# EAGLE library part SCREW8 (library cyclops)
Screw Terminal
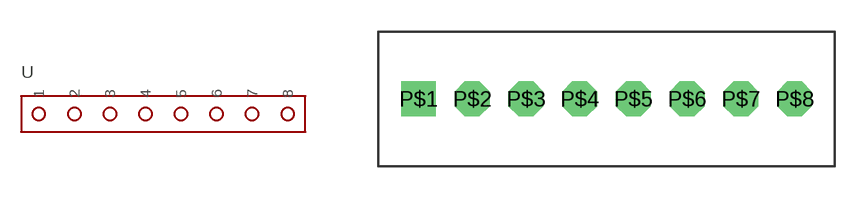
[diagram p6: symbol with the pads of SCREW8; footprint SCREW8]

Designator prefix -

## SCREW8  [SCREW8]
P$1  1
P$2  2
P$3  3
P$4  4
P$5  5
P$6  6
P$7  7
P$8  8

## Footprint SCREW8 (pad centres in mm)
drill 1.1 square: P$1 0,0
drill 1.1 octagon: P$2 2.54,0; P$3 5.08,0; P$4 7.62,0; P$5 10.16,0; P$6 12.7,0; P$7 15.24,0; P$8 17.78,0